# EAGLE library part CON10P (library ds_con)
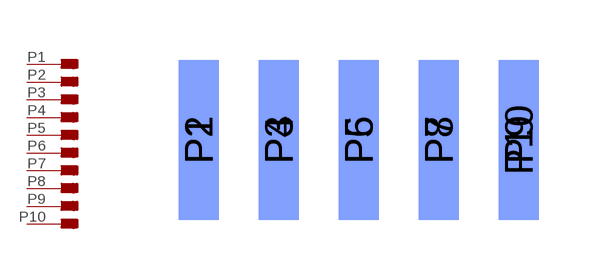
[diagram p13: symbol with the pads of CON10P; footprint CON10P]

Designator prefix CON; gates G$1=CON10P G$2=CON10P G$3=CON10P G$4=CON10P G$5=CON10P G$6=CON10P G$7=CON10P G$8=CON10P G$9=CON10P G$10=CON10P

## CON10P  [CON10P]
P1  G$1:P1
P2  G$2:P1
P3  G$3:P1
P4  G$4:P1
P5  G$5:P1
P6  G$6:P1
P7  G$7:P1
P8  G$8:P1
P9  G$9:P1
P10  G$10:P1

## Footprint CON10P (pad centres in mm)
smd 1 x 4: P1 -4,0; P3 -2,0; P5 0,0; P7 2,0; P9 4,0
smd 1 x 4 bottom: P2 -4,0; P4 -2,0; P6 0,0; P8 2,0; P10 4,0